# Altium integrated library Actel Fusion.IntLib: 336 symbols (part 16 of 73)
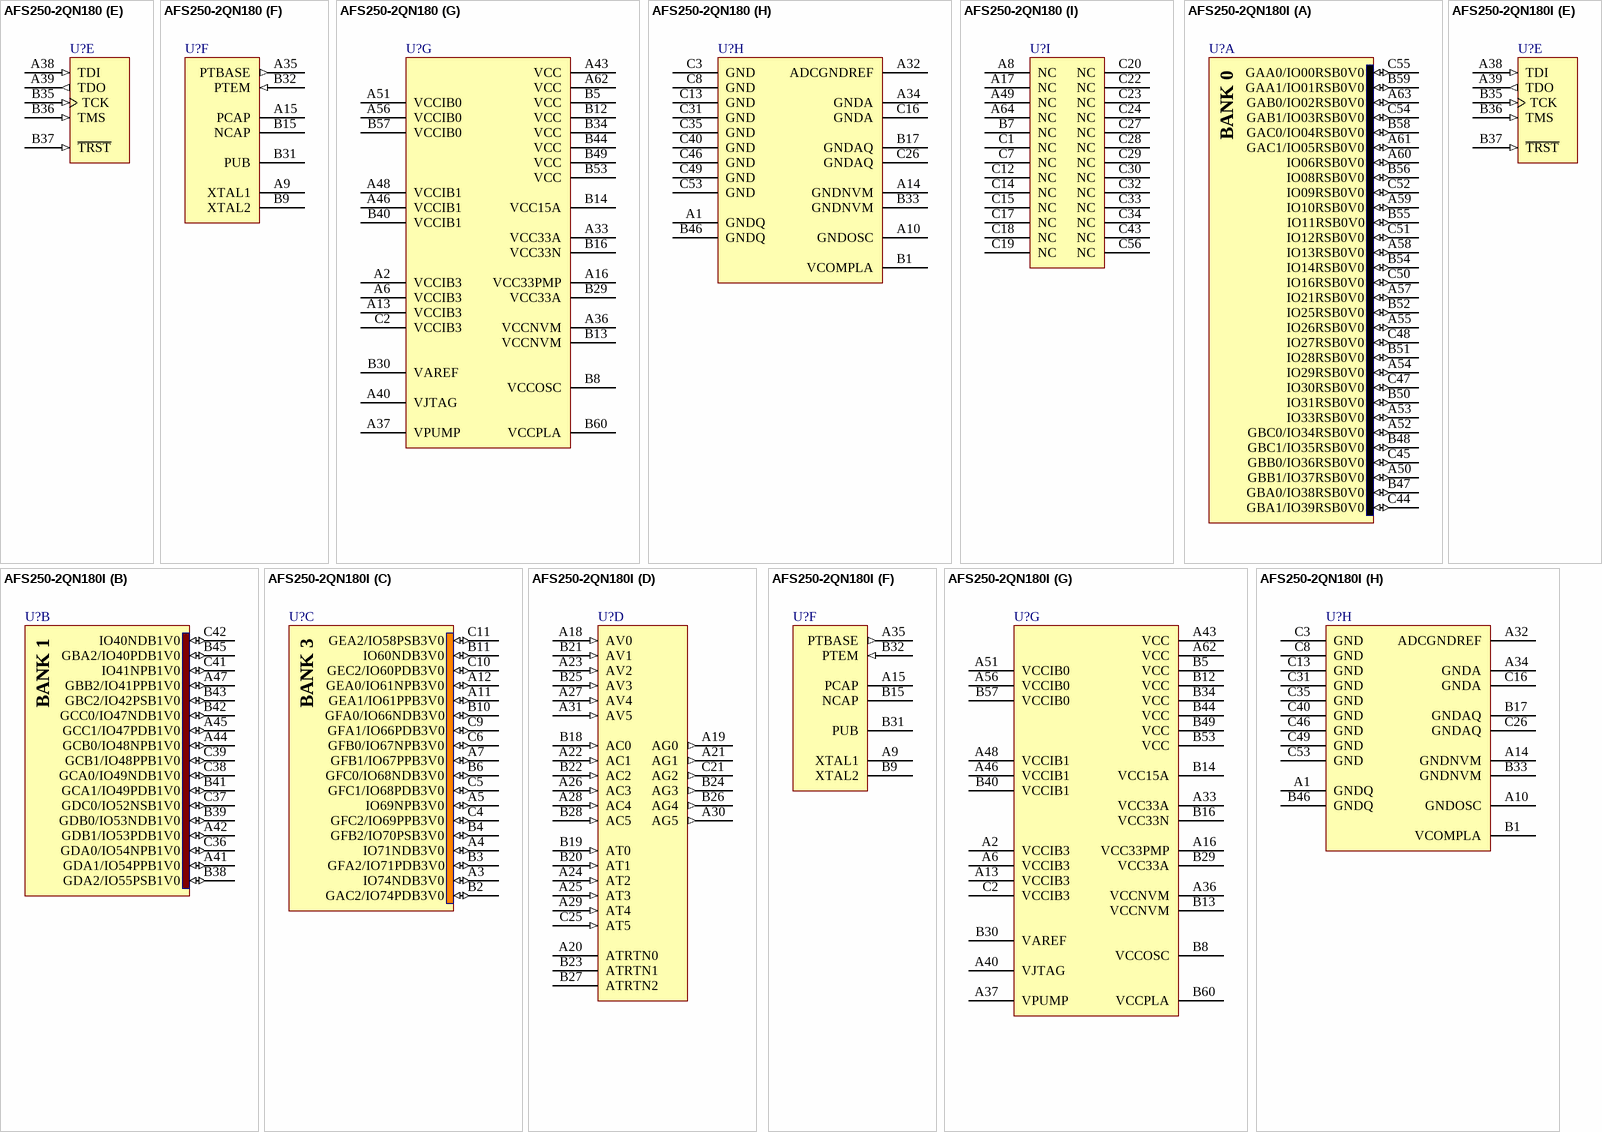
[diagram p400: symbols AFS250-2QN180 to AFS250-2QN180I]

## AFS250-2QN180
designator U?
3.3V Fusion Mixed Signal Flash FPGA, 250,000 System Gates, 180-Pin Quad Flat No Lead, 25% Faster Speed Grade, Commercial Grade; Published: 30-Jun-2006; LatestRevisionDate: 11-Dec-2009; LatestRevisionNote: Updated to datasheet version 2.0 Jul-2009.; DatasheetVersion: v2.0, Jul-2008; PackageVersion: ver11.2, Nov-2009; PackageReference: QN180; Publisher: Altium Limited; PackageDescription: 180-Pin Quad Flat Pack No-Leads (QN180); ComponentLink1Description: Fusion Datasheet; ComponentLink1URL: http://www.actel.com/documents/Fusion_DS.pdf; ComponentLink2Description: Package Mechanical Drawings; ComponentLink2URL: http://www.actel.com/documents/PckgMechDrwngs.pdf; ComponentLink3Description: Fusion Documents; ComponentLink3URL: http://www.actel.com/products/fusion/docs.aspx; ComponentLink4Description: Actel.com Home; ComponentLink4URL: http://www.actel.com/
footprint QN180 (QFN, 180-Leads, Body 10x10mm, Pitch 0.5mm)
3D model AFS250-QN180 (180-Pin Quad Flat Pack No-Leads (QN180))
signal-integrity model AFS250_QN180 (Fusion)
part A pins: A50 GBB1/IO37RSB0V0 (io), A52 GBC0/IO34RSB0V0 (io), A53 IO33RSB0V0 (io), A54 IO29RSB0V0 (io), A55 IO26RSB0V0 (io), A57 IO21RSB0V0 (io), A58 IO13RSB0V0 (io), A59 IO10RSB0V0 (io), A60 IO06RSB0V0 (io), A61 GAC1/IO05RSB0V0 (io), A63 GAB0/IO02RSB0V0 (io), B47 GBA0/IO38RSB0V0 (io), B48 GBC1/IO35RSB0V0 (io), B50 IO31RSB0V0 (io), B51 IO28RSB0V0 (io), B52 IO25RSB0V0 (io), B54 IO14RSB0V0 (io), B55 IO11RSB0V0 (io), B56 IO08RSB0V0 (io), B58 GAC0/IO04RSB0V0 (io), B59 GAA1/IO01RSB0V0 (io), C44 GBA1/IO39RSB0V0 (io), C45 GBB0/IO36RSB0V0 (io), C47 IO30RSB0V0 (io), C48 IO27RSB0V0 (io), C50 IO16RSB0V0 (io), C51 IO12RSB0V0 (io), C52 IO09RSB0V0 (io), C54 GAB1/IO03RSB0V0 (io), C55 GAA0/IO00RSB0V0 (io)
part B pins: A41 GDA1/IO54PPB1V0 (io), A42 GDB1/IO53PDB1V0 (io), A44 GCB0/IO48NPB1V0 (io), A45 GCC1/IO47PDB1V0 (io), A47 GBB2/IO41PPB1V0 (io), B38 GDA2/IO55PSB1V0 (io), B39 GDB0/IO53NDB1V0 (io), B41 GCA1/IO49PDB1V0 (io), B42 GCC0/IO47NDB1V0 (io), B43 GBC2/IO42PSB1V0 (io), B45 GBA2/IO40PDB1V0 (io), C36 GDA0/IO54NPB1V0 (io), C37 GDC0/IO52NSB1V0 (io), C38 GCA0/IO49NDB1V0 (io), C39 GCB1/IO48PPB1V0 (io), C41 IO41NPB1V0 (io), C42 IO40NDB1V0 (io)
part C pins: A3 IO74NDB3V0 (io), A4 IO71NDB3V0 (io), A5 IO69NPB3V0 (io), A7 GFB1/IO67PPB3V0 (io), A11 GEA1/IO61PPB3V0 (io), A12 GEA0/IO61NPB3V0 (io), B2 GAC2/IO74PDB3V0 (io), B3 GFA2/IO71PDB3V0 (io), B4 GFB2/IO70PSB3V0 (io), B6 GFC0/IO68NDB3V0 (io), B10 GFA0/IO66NDB3V0 (io), B11 IO60NDB3V0 (io), C4 GFC2/IO69PPB3V0 (io), C5 GFC1/IO68PDB3V0 (io), C6 GFB0/IO67NPB3V0 (io), C9 GFA1/IO66PDB3V0 (io), C10 GEC2/IO60PDB3V0 (io), C11 GEA2/IO58PSB3V0 (io)
part D pins: A18 AV0 (in) "Analog voltage pad 0.", A19 AG0 (out) "Analog gate driver pad 0.", A20 ATRTN0 "Temperature monitor return 0.", A21 AG1 (out) "Analog gate driver pad 1.", A22 AC1 (in) "Analog current pad 1.", A23 AV2 (in) "Analog voltage pad 2.", A24 AT2 (in) "Analog temperature pad 2.", A25 AT3 (in) "Analog temperature pad 3.", A26 AC3 (in) "Analog current pad 3.", A27 AV4 (in) "Analog voltage pad 4.", A28 AC4 (in) "Analog current pad 4.", A29 AT4 (in) "Analog temperature pad 4.", A30 AG5 (out) "Analog gate driver pad 5.", A31 AV5 (in) "Analog voltage pad 5.", B18 AC0 (in) "Analog current pad 0.", B19 AT0 (in) "Analog temperature pad 0.", B20 AT1 (in) "Analog temperature pad 1.", B21 AV1 (in) "Analog voltage pad 1.", B22 AC2 (in) "Analog current pad 2.", B23 ATRTN1 "Temperature monitor return 1.", B24 AG3 (out) "Analog gate driver pad 3.", B25 AV3 (in) "Analog voltage pad 3.", B26 AG4 (out) "Analog gate driver pad 4.", B27 ATRTN2 "Temperature monitor return 2.", B28 AC5 (in) "Analog current pad 5.", C21 AG2 (out) "Analog gate driver pad 2.", C25 AT5 (in) "Analog temperature pad 5."
part E pins: A38 TDI (in), A39 TDO (out), B35 TCK (in), B36 TMS (in), B37 ~{TRST} (in)
part F pins: A9 XTAL1 "Input to crystal oscillator - If using external RC network or clock input, XTAL1 should be used and XTAL2 left unconnected.", A15 PCAP "POSITIVE CAPACITOR - where the positive terminal of the charge pump capacitor is connected.", A35 PTBASE (out) "PASS TRANSISTOR BASE - The control signal of the voltage regulator.", B9 XTAL2 "Input to crystal oscillator - If using external RC network or clock input, XTAL1 should be used and XTAL2 left unconnected.", B15 NCAP "NEGATIVE CAPACITOR - where the negative terminal of the charge pump capacitor is connected.", B31 PUB "Power up bar - for the external momentary switch which turns on the 1.5V regulator.", B32 PTEM (in) "PASS TRANSISTOR EMITTER - The feedback input of the voltage regulator."
part G pins: A2 VCCIB3 (power) "Quiet supply voltage to the input buffers of bank 3.", A6 VCCIB3 (power), A13 VCCIB3 (power), A16 VCC33PMP (power) "3.3V clean analog power supply input for use by the analog charge pump.", A33 VCC33A (power), A36 VCCNVM (power) "1.5V power supply used by the Fusion device's Flash memory block module(s).", A37 VPUMP (power), A40 VJTAG (power), A43 VCC (power), A46 VCCIB1 (power), A48 VCCIB1 (power) "Quiet supply voltage to the input buffers of bank 1.", A51 VCCIB0 (power), A56 VCCIB0 (power), A62 VCC (power), B5 VCC (power), B8 VCCOSC (power), B12 VCC (power), B13 VCCNVM (power) "1.5V power supply used by the Fusion device's Flash memory block module(s).", B14 VCC15A (power), B16 VCC33N (power) "-3.3V output from the voltage converter. A 2.2µF capacitor must be connected from this pin to ground.", B29 VCC33A (power) "Analog power pin for the analog power supply low pass filter. An external 1µF capacitor should be connected between this pin and ground.", B30 VAREF (power) "Analog reference voltage to be used by analog to digital converter.", B34 VCC (power), B40 VCCIB1 (power), B44 VCC (power), B49 VCC (power), B53 VCC (power), B57 VCCIB0 (power), B60 VCCPLA (power), C2 VCCIB3 (power)
part H pins: A1 GNDQ (power), A10 GNDOSC (power) "Oscillator ground.", A14 GNDNVM (power) "Flash memory ground.", A32 ADCGNDREF (power) "Analog ground reference used by the ADC.", A34 GNDA (power), B1 VCOMPLA (power), B17 GNDAQ (power), B33 GNDNVM (power) "Flash memory ground.", B46 GNDQ (power), C3 GND (power), C8 GND (power), C13 GND (power), C16 GNDA (power), C26 GNDAQ (power), C31 GND (power), C35 GND (power), C40 GND (power), C46 GND (power), C49 GND (power), C53 GND (power)
part I pins: A8 NC, A17 NC, A49 NC, A64 NC, B7 NC, C1 NC, C7 NC, C12 NC, C14 NC, C15 NC, C17 NC, C18 NC, C19 NC, C20 NC, C22 NC, C23 NC, C24 NC, C27 NC, C28 NC, C29 NC, C30 NC, C32 NC, C33 NC, C34 NC, C43 NC, C56 NC
part A text: BANK 0
part B text: BANK 1
part C text: BANK 3

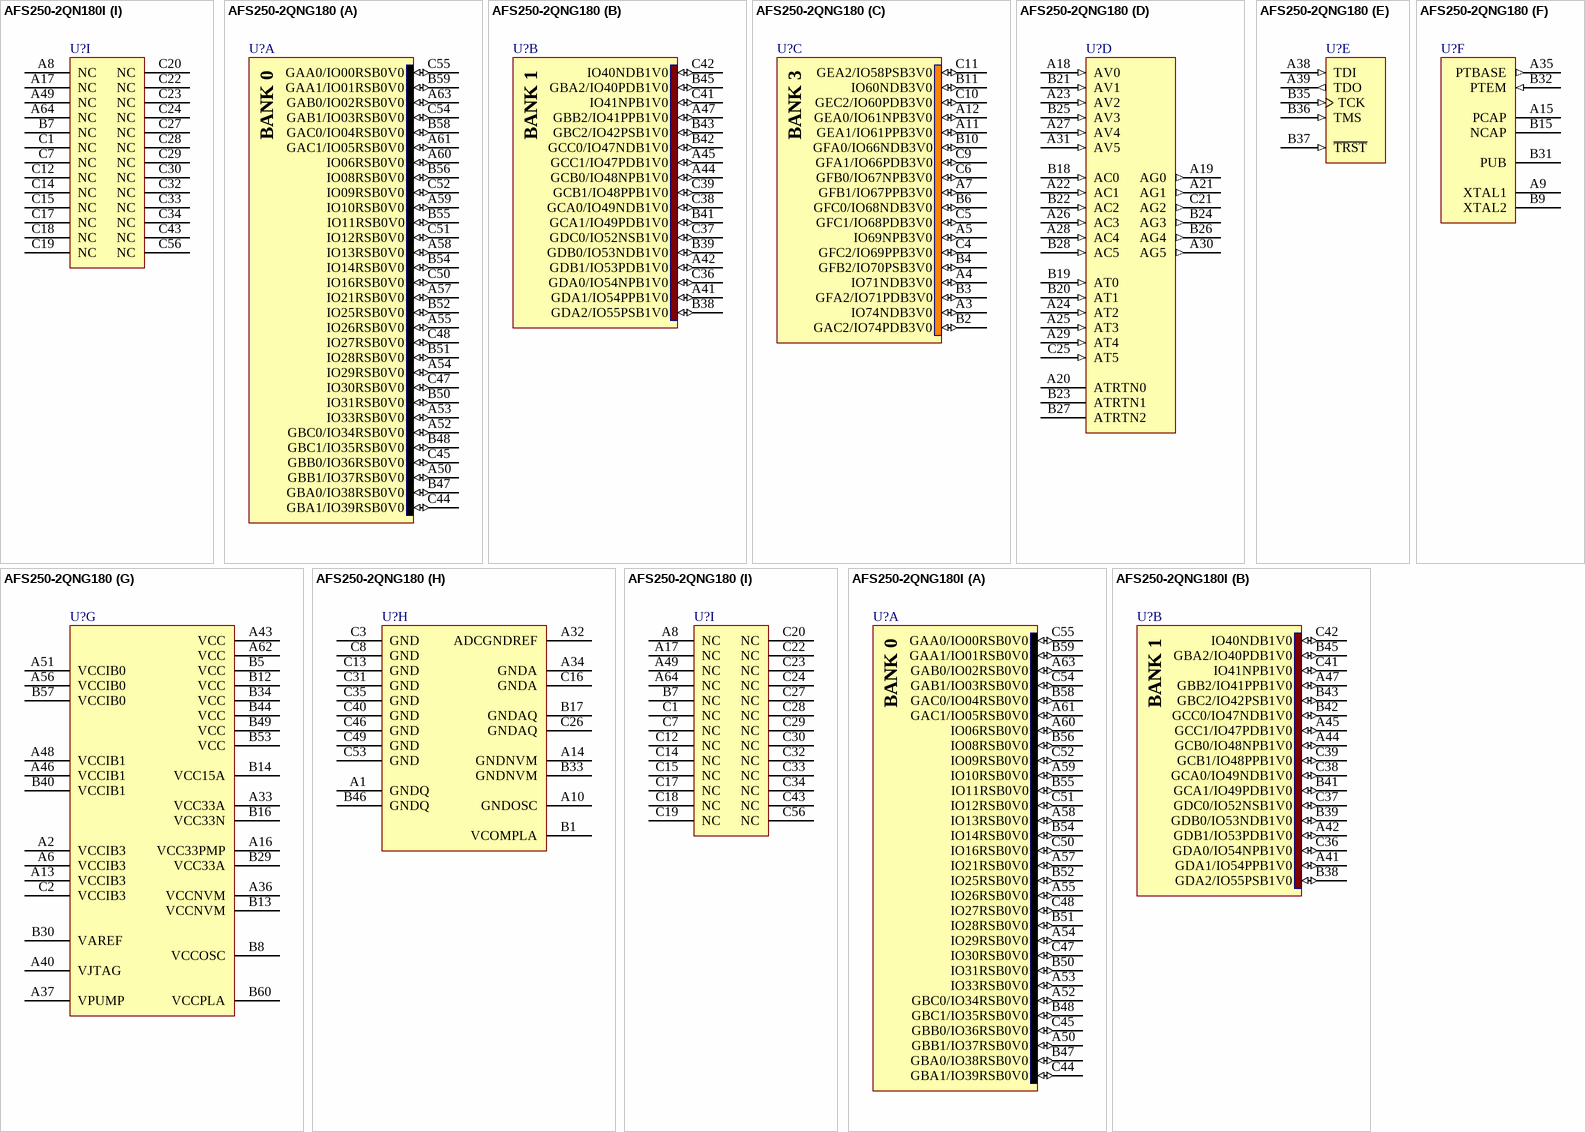
[diagram p39: symbols AFS250-2QN180I to AFS250-2QNG180I]